# Altium footprint library GDK.PcbLib: 5 footprints
Each footprint in its own frame and in the unit in brackets; x right, y up, seen from the top. Pads: shape width x height; smd on the part's side, far side on the other; paste and mask are expansions set on the pad; w line width, h text height; cw(c..) or ccw(c..) is an arc to the next point about the centre after c.
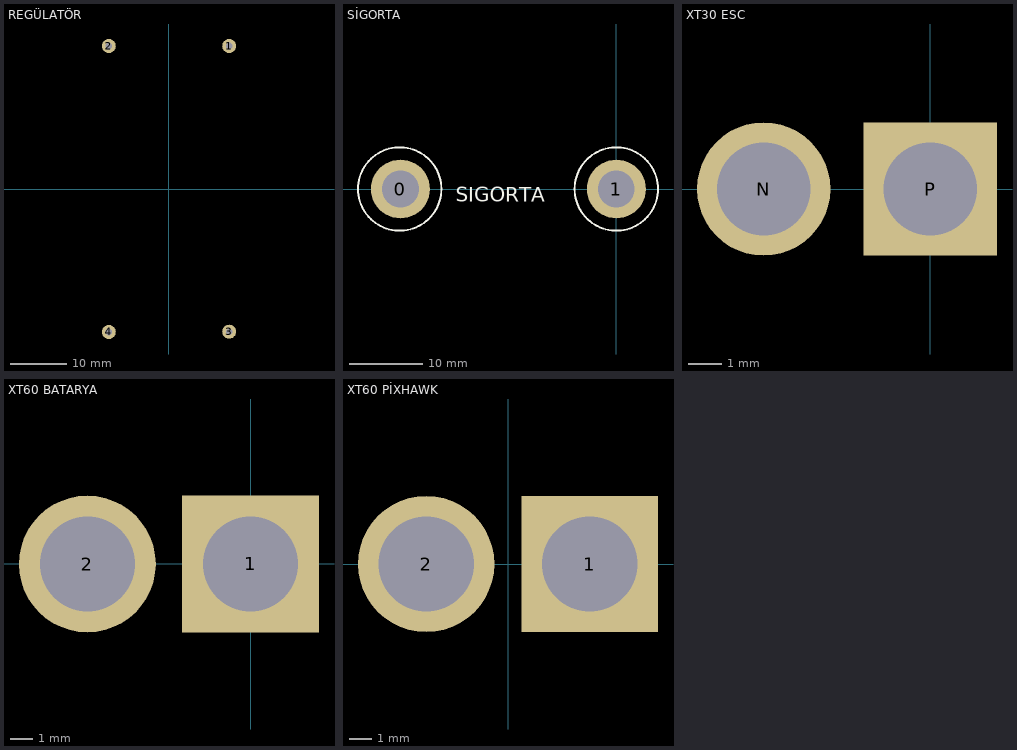
[diagram p0: the footprints below, top view; thin cyan lines are the x and y axes]

## REGÜLATÖR [mm]
pads (4):
  round 2.5 hole 1.2: 1(10.75,25.525) 2(-10.75,25.525) 3(10.75,-25.475) 4(-10.75,-25.525)
3D body "XL4015_MODELO_PISTAS.step": height 14.53, standoff -0.23, extent -12,-26.975 12.014,27.025

## SİGORTA [mm]
pads (2):
  round 8 hole 5: 0(-29.3,0) 1(0,0)
Top Overlay:
  circle w0.254: c-29.4,0 r5.657
  circle w0.254: c0,0 r5.657
  text "SIGORTA" at -21.8,-1.7 h2
3D body: height 2.93, standoff 0.25, extent -40.06,-9.97 9.79,9.08

## XT30 ESC [mm]
pads (2):
  round 4 hole 2.8: N(-5,0)
  rect 4x4 hole 2.8: P(0,0)
3D body "User Library-XT30.STEP": height 12.6, standoff -2.9, extent -7.7,-2.6 2.7,2.7

## XT60 BATARYA [mm]
pads (2):
  rect 6.2x6.2 hole 4.3: 1(0,0)
  round 6.2 hole 4.3: 2(-7.4,0)
3D body "XT60FemaleConnector.STEP": height 17, standoff -3.5, extent -11.85,-3.75 4.7,3.75

## XT60 PİXHAWK [mm]
pads (2):
  rect 6x6 hole 4.2: 1(3.6,0)
  round 6 hole 4.2: 2(-3.6,0)
3D body "XT60MaleConnector.STEP": height 15.7, standoff -4.5, extent -8.275,-3.8 8.275,3.7